# Altium schematic symbol library Real-Time Clocks (RTCs).SchLib: 548 symbols (part 11 of 13)
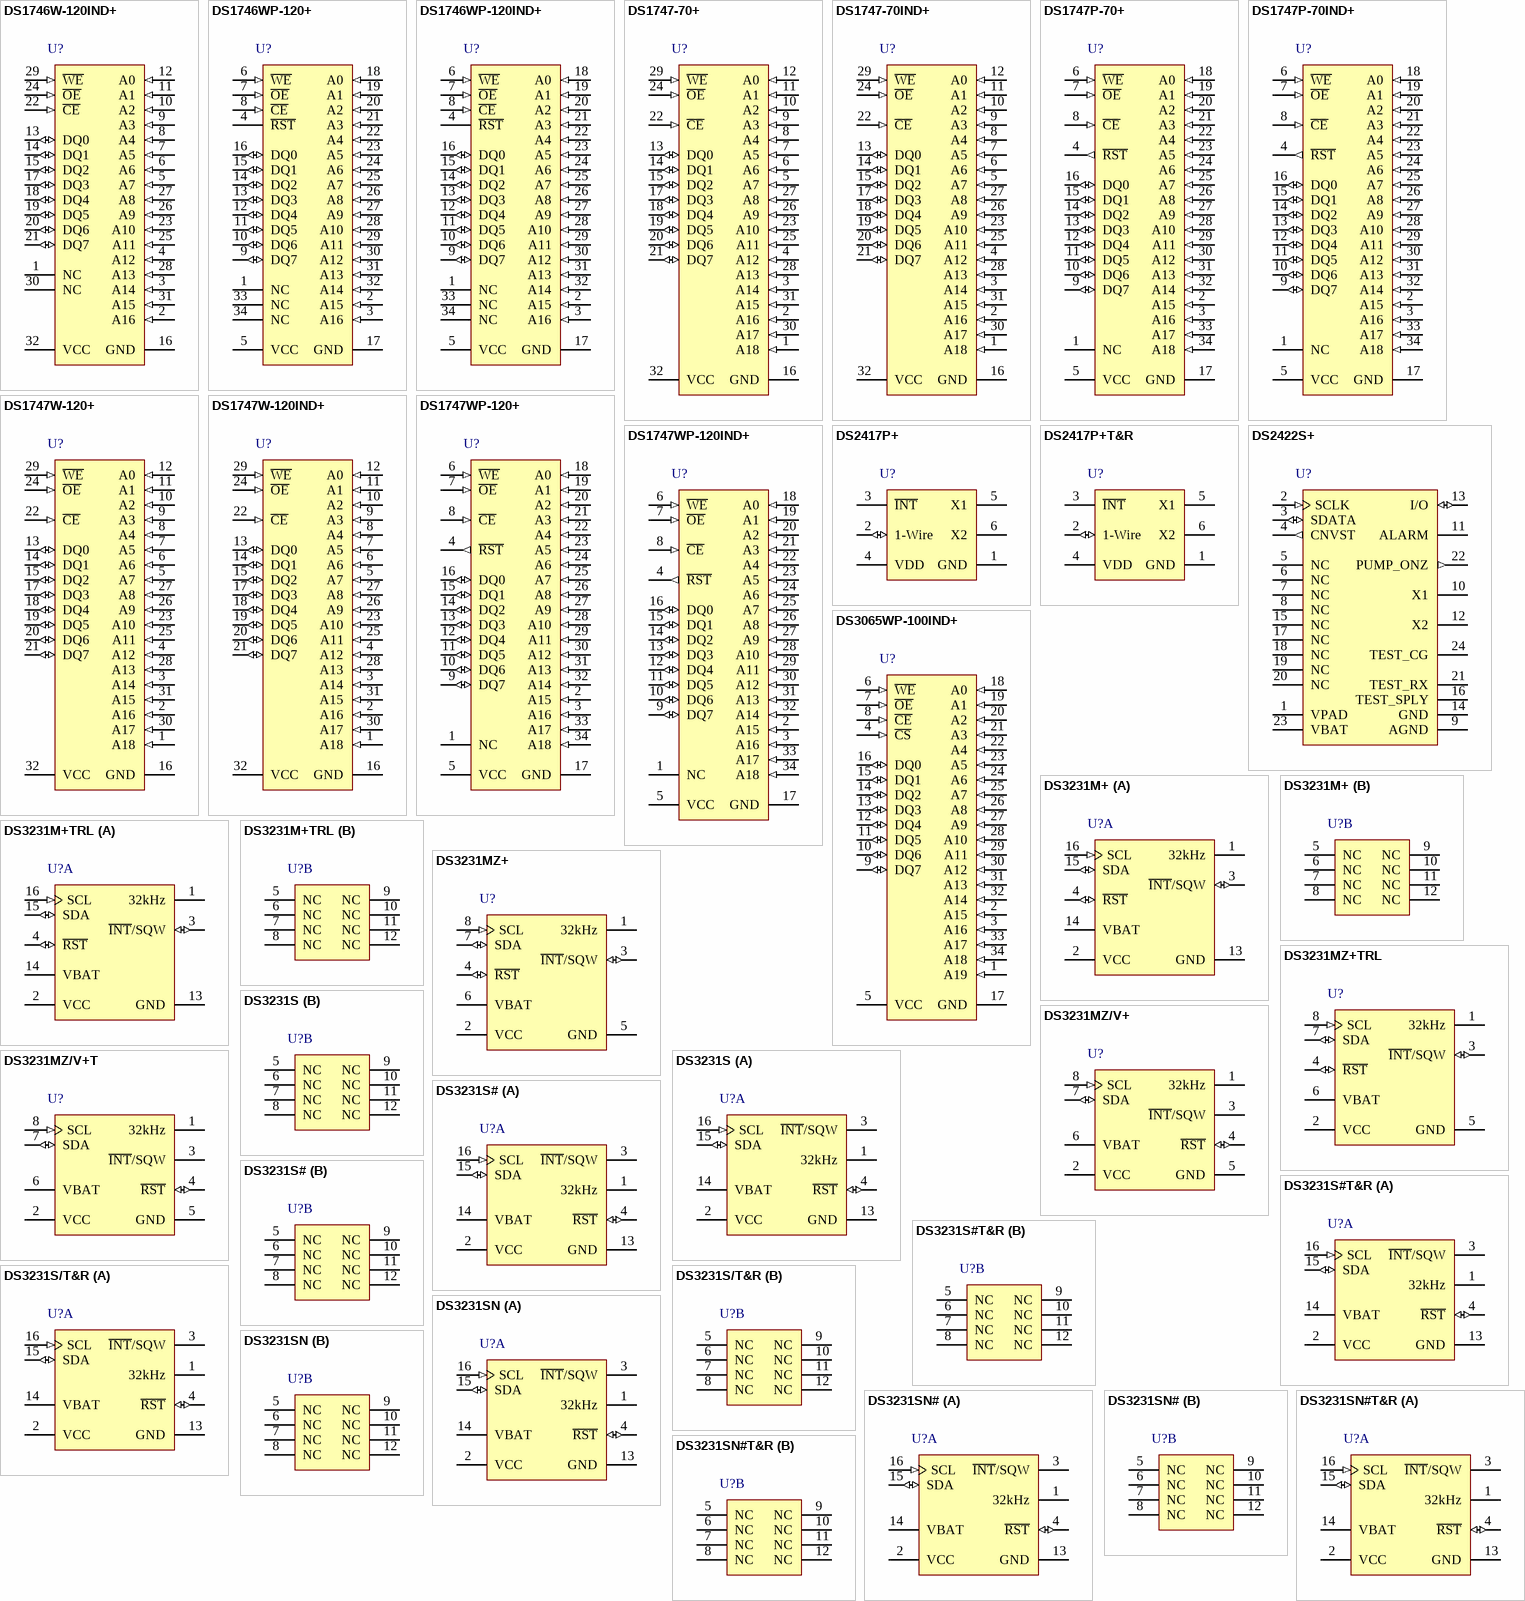
[diagram p31: symbols DS1746W-120IND+ to DS3231SN#T&R]

## DS1747W-120+
designator U?
Y2K-Compliant Nonvolatile Timekeeping RAM, 3.3V, 32-Pin EDIP, 0 to 70 degC, Pb-Free; DatasheetVersion: Mar-2012; PackageVersion: revA, Feb-2009; PackageReference: MDT32+4; PackageDescription: 32-Pin Encapsulated Dual-In-Line Module, 2.54 mm Pitch, EDIP, Pb-Free; ComponentLink1Description: Manufacturer URL; ComponentLink1URL: http://www.maxim-ic.com; ComponentLink2Description: Datasheet; ComponentLink2URL: http://datasheets.maxim-ic.com/en/ds/DS1747-DS1747P.pdf; ComponentLink3Description: Package Specification; ComponentLink3URL: http://pdfserv.maxim-ic.com/package_dwgs/21-0245.PDF
footprint MDT32+4 (DIP, 32 Rectangular Pins, Body 43.1x18.5mm, Row Space 15.24mm, Pitch 2.54mm)
pins: 1 A18 (in), 2 A16 (in), 3 A14 (in), 4 A12 (in), 5 A7 (in), 6 A6 (in), 7 A5 (in), 8 A4 (in), 9 A3 (in), 10 A2 (in), 11 A1 (in), 12 A0 (in), 13 DQ0 (io), 14 DQ1 (io), 15 DQ2 (io), 16 GND (power), 17 DQ3 (io), 18 DQ4 (io), 19 DQ5 (io), 20 DQ6 (io), 21 DQ7 (io), 22 ~{CE} (in), 23 A10 (in), 24 ~{OE} (in), 25 A11 (in), 26 A9 (in), 27 A8 (in), 28 A13 (in), 29 ~{WE} (in), 30 A17 (in), 31 A15 (in), 32 VCC (power)

## DS1747W-120IND+
designator U?
Y2K-Compliant Nonvolatile Timekeeping RAM, 3.3V, 32-Pin EDIP, -40 to 85 degC, Pb-Free; DatasheetVersion: Mar-2012; PackageVersion: revA, Feb-2009; PackageReference: MDT32+4; PackageDescription: 32-Pin Encapsulated Dual-In-Line Module, 2.54 mm Pitch, EDIP, Pb-Free; ComponentLink1Description: Manufacturer URL; ComponentLink1URL: http://www.maxim-ic.com; ComponentLink2Description: Datasheet; ComponentLink2URL: http://datasheets.maxim-ic.com/en/ds/DS1747-DS1747P.pdf; ComponentLink3Description: Package Specification; ComponentLink3URL: http://pdfserv.maxim-ic.com/package_dwgs/21-0245.PDF
footprint MDT32+4 (DIP, 32 Rectangular Pins, Body 43.1x18.5mm, Row Space 15.24mm, Pitch 2.54mm)
pins: 1 A18 (in), 2 A16 (in), 3 A14 (in), 4 A12 (in), 5 A7 (in), 6 A6 (in), 7 A5 (in), 8 A4 (in), 9 A3 (in), 10 A2 (in), 11 A1 (in), 12 A0 (in), 13 DQ0 (io), 14 DQ1 (io), 15 DQ2 (io), 16 GND (power), 17 DQ3 (io), 18 DQ4 (io), 19 DQ5 (io), 20 DQ6 (io), 21 DQ7 (io), 22 ~{CE} (in), 23 A10 (in), 24 ~{OE} (in), 25 A11 (in), 26 A9 (in), 27 A8 (in), 28 A13 (in), 29 ~{WE} (in), 30 A17 (in), 31 A15 (in), 32 VCC (power)

## DS1747WP-120+
designator U?
Y2K-Compliant Nonvolatile Timekeeping RAM, 3.3V, 34-Pin PowerCap, 0 to 70 degC, Pb-Free; DatasheetVersion: Mar-2012; PackageVersion: revA, 2004; PackageReference: PC2+1; PackageDescription: 34-Pin PowerCap 0.990 Module with Cap, PCAP, Pb-Free; ComponentLink1Description: Manufacturer URL; ComponentLink1URL: http://www.maxim-ic.com; ComponentLink2Description: Datasheet; ComponentLink2URL: http://datasheets.maxim-ic.com/en/ds/DS1747-DS1747P.pdf; ComponentLink3Description: Package Specification; ComponentLink3URL: http://pdfserv.maxim-ic.com/package_dwgs/21-0246.PDF
footprint PC2+1 (PowerCap Module with Cap, 34-Leads, Body 24.7 x.25.3mm, Pitch 1.27mm)
pins: 1 NC, 2 A15 (in), 3 A16 (in), 4 ~{RST} (out), 5 VCC (power), 6 ~{WE} (in), 7 ~{OE} (in), 8 ~{CE} (in), 9 DQ7 (io), 10 DQ6 (io), 11 DQ5 (io), 12 DQ4 (io), 13 DQ3 (io), 14 DQ2 (io), 15 DQ1 (io), 16 DQ0 (io), 17 GND (power), 18 A0 (in), 19 A1 (in), 20 A2 (in), 21 A3 (in), 22 A4 (in), 23 A5 (in), 24 A6 (in), 25 A7 (in), 26 A8 (in), 27 A9 (in), 28 A10 (in), 29 A11 (in), 30 A12 (in), 31 A13 (in), 32 A14 (in), 33 A17 (in), 34 A18 (in)

## DS1747WP-120IND+
designator U?
Y2K-Compliant Nonvolatile Timekeeping RAM, 3.3V, 34-Pin PowerCap, -40 to 85 degC, Pb-Free; DatasheetVersion: Mar-2012; PackageVersion: revA, 2004; PackageReference: PC2+1; PackageDescription: 34-Pin PowerCap 0.990 Module with Cap, PCAP, Pb-Free; ComponentLink1Description: Manufacturer URL; ComponentLink1URL: http://www.maxim-ic.com; ComponentLink2Description: Datasheet; ComponentLink2URL: http://datasheets.maxim-ic.com/en/ds/DS1747-DS1747P.pdf; ComponentLink3Description: Package Specification; ComponentLink3URL: http://pdfserv.maxim-ic.com/package_dwgs/21-0246.PDF
footprint PC2+1 (PowerCap Module with Cap, 34-Leads, Body 24.7 x.25.3mm, Pitch 1.27mm)
pins: 1 NC, 2 A15 (in), 3 A16 (in), 4 ~{RST} (out), 5 VCC (power), 6 ~{WE} (in), 7 ~{OE} (in), 8 ~{CE} (in), 9 DQ7 (io), 10 DQ6 (io), 11 DQ5 (io), 12 DQ4 (io), 13 DQ3 (io), 14 DQ2 (io), 15 DQ1 (io), 16 DQ0 (io), 17 GND (power), 18 A0 (in), 19 A1 (in), 20 A2 (in), 21 A3 (in), 22 A4 (in), 23 A5 (in), 24 A6 (in), 25 A7 (in), 26 A8 (in), 27 A9 (in), 28 A10 (in), 29 A11 (in), 30 A12 (in), 31 A13 (in), 32 A14 (in), 33 A17 (in), 34 A18 (in)

## DS2417P+
designator U?
1-Wire Time Chip with Interrupt, 6-Pin TSOC, -40 to 85 degC, Pb-Free; DatasheetVersion: Jul-2007; PackageVersion: revE, 2011; PackageReference: D6+1; PackageDescription: Thin Small-Outline, 6 C-Leads, 3.9 x 3.8 mm Body, 1.27 mm Pitch, TSOC, Pb-Free; ComponentLink1Description: Manufacturer URL; ComponentLink1URL: http://www.maxim-ic.com; ComponentLink2Description: Datasheet; ComponentLink2URL: http://datasheets.maxim-ic.com/en/ds/DS2417.pdf; ComponentLink3Description: Package Specification; ComponentLink3URL: http://pdfserv.maxim-ic.com/package_dwgs/21-0382.PDF
footprint D6+1 (Small Outline; 6 C-Bend Leads; Body Width 3.8 mm; Pitch 1.27 mm, Maxim Recommended)
pins: 1 GND (power), 2 1-Wire (io), 3 ~{INT} (oc), 4 VDD (power), 5 X1, 6 X2

## DS2417P+T&R
designator U?
1-Wire Time Chip with Interrupt, 6-Pin TSOC, -40 to 85 degC, Pb-Free, Reel; DatasheetVersion: Jul-2007; PackageVersion: revE, 2011; PackageReference: D6+1; PackageDescription: Thin Small-Outline, 6 C-Leads, 3.9 x 3.8 mm Body, 1.27 mm Pitch, TSOC, Pb-Free; ComponentLink1Description: Manufacturer URL; ComponentLink1URL: http://www.maxim-ic.com; ComponentLink2Description: Datasheet; ComponentLink2URL: http://datasheets.maxim-ic.com/en/ds/DS2417.pdf; ComponentLink3Description: Package Specification; ComponentLink3URL: http://pdfserv.maxim-ic.com/package_dwgs/21-0382.PDF
footprint D6+1 (Small Outline; 6 C-Bend Leads; Body Width 3.8 mm; Pitch 1.27 mm, Maxim Recommended)
pins: 1 GND (power), 2 1-Wire (io), 3 ~{INT} (oc), 4 VDD (power), 5 X1, 6 X2

## DS2422S+
designator U?
1-Wire Temperature/ Datalogger with 8KB Datalog Memory, 24-Pin SO, -40 to 85 degC, Pb-Free; DatasheetVersion: May-2010; PackageVersion: revD, 2010; PackageReference: W24+4; PackageDescription: 24-Pin Small-Outline IC, Wide (0.3in), 1.27 mm Pitch, SOIC (W), Pb-Free; Code_JEDEC: MS-013-AD; ComponentLink1Description: Manufacturer URL; ComponentLink1URL: http://www.maxim-ic.com; ComponentLink2Description: Datasheet; ComponentLink2URL: http://datasheets.maxim-ic.com/en/ds/DS2422.pdf; ComponentLink3Description: Package Specification; ComponentLink3URL: http://pdfserv.maxim-ic.com/package_dwgs/21-0042.PDF
footprint W24+4_N (SOIC, 24-Leads, Body 15.4x7.5mm, Pitch 1.27mm, IPC Medium Density)
footprint W24+4_L (SOIC, 24-Leads, Body 15.4x7.5mm, Pitch 1.27mm, IPC High Density)
footprint W24+4_M (SOIC, 24-Leads, Body 15.4x7.5mm, Pitch 1.27mm, IPC Low Density)
pins: 1 VPAD (power), 2 SCLK (in), 3 SDATA (io), 4 CNVST (out), 5 NC, 6 NC, 7 NC, 8 NC, 9 AGND (power), 10 X1, 11 ALARM (oc), 12 X2, 13 I/O (io), 14 GND (power), 15 NC, 16 TEST_SPLY (power), 17 NC, 18 NC, 19 NC, 20 NC, 21 TEST_RX (power), 22 PUMP_ONZ (out), 23 VBAT (power), 24 TEST_CG

## DS3065WP-100IND+
designator U?
8Mb Nonvolatile SRAM with Real-Time Clock, 100ns, 3.3V, 34-Pin PowerCap, -40 to 85 degC, Pb-Free; DatasheetVersion: Rev 0, Jul-2010; PackageVersion: revA, 2004; PackageReference: PC3+1; PackageDescription: 34-Pin PowerCap 0.990 Module with Cap, PCAP, Pb-Free; ComponentLink1Description: Manufacturer URL; ComponentLink1URL: http://www.maxim-ic.com; ComponentLink2Description: Datasheet; ComponentLink2URL: http://datasheets.maxim-ic.com/en/ds/DS3065WP.pdf; ComponentLink3Description: Package Specification; ComponentLink3URL: http://pdfserv.maxim-ic.com/package_dwgs/21-0246.PDF
footprint PC3+1 (PowerCap Module with Cap, 34-Leads, Body 24.7 x.25.3mm, Pitch 1.27mm)
pins: 1 A19 (in), 2 A15 (in), 3 A16 (in), 4 ~{CS} (in), 5 VCC (power), 6 ~{WE} (in), 7 ~{OE} (in), 8 ~{CE} (in), 9 DQ7 (io), 10 DQ6 (io), 11 DQ5 (io), 12 DQ4 (io), 13 DQ3 (io), 14 DQ2 (io), 15 DQ1 (io), 16 DQ0 (io), 17 GND (power), 18 A0 (in), 19 A1 (in), 20 A2 (in), 21 A3 (in), 22 A4 (in), 23 A5 (in), 24 A6 (in), 25 A7 (in), 26 A8 (in), 27 A9 (in), 28 A10 (in), 29 A11 (in), 30 A12 (in), 31 A13 (in), 32 A14 (in), 33 A17 (in), 34 A18 (in)

## DS3231M+
designator U?
+/-5ppm, MEMS based Real-Time Clock, I2C Interface, 16-Pin SO, -40 to 85 degC, Pb-Free; DatasheetVersion: Rev 3, Dec-2011; PackageVersion: revD, 2010; PackageReference: W16MK+1; PackageDescription: 16-Pin Small-Outline IC, Wide (0.3in), 1.27 mm Pitch, SOIC (W), Pb-Free; Code_JEDEC: MS-013-AA; Code_IPC: SOIC127P1030-16; ComponentLink1Description: Manufacturer URL; ComponentLink1URL: http://www.maxim-ic.com; ComponentLink2Description: Datasheet; ComponentLink2URL: http://datasheets.maxim-ic.com/en/ds/DS3231M.pdf; ComponentLink3Description: Package Specification; ComponentLink3URL: http://pdfserv.maxim-ic.com/package_dwgs/21-0042.PDF
footprint W16MK+1_N (SOIC, 16-Leads, Body 10.3x7.5mm, Pitch 1.27mm, IPC Medium Density)
footprint W16MK+1_L (SOIC, 16-Leads, Body 10.3x7.5mm, Pitch 1.27mm, IPC High Density)
footprint W16MK+1_M (SOIC, 16-Leads, Body 10.3x7.5mm, Pitch 1.27mm, IPC Low Density)
part A pins: 1 32kHz (oc), 2 VCC (power), 3 ~{INT}/SQW (io), 4 ~{RST} (io), 13 GND (power), 14 VBAT (power), 15 SDA (io), 16 SCL (in)
part B pins: 5 NC, 6 NC, 7 NC, 8 NC, 9 NC, 10 NC, 11 NC, 12 NC

## DS3231M+TRL
designator U?
+/-5ppm, MEMS based Real-Time Clock, I2C Interface, 16-Pin SO, -40 to 85 degC, Pb-Free, Reel; DatasheetVersion: Rev 3, Dec-2011; PackageVersion: revD, 2010; PackageReference: W16MK+1; PackageDescription: 16-Pin Small-Outline IC, Wide (0.3in), 1.27 mm Pitch, SOIC (W), Pb-Free; Code_JEDEC: MS-013-AA; Code_IPC: SOIC127P1030-16; ComponentLink1Description: Manufacturer URL; ComponentLink1URL: http://www.maxim-ic.com; ComponentLink2Description: Datasheet; ComponentLink2URL: http://datasheets.maxim-ic.com/en/ds/DS3231M.pdf; ComponentLink3Description: Package Specification; ComponentLink3URL: http://pdfserv.maxim-ic.com/package_dwgs/21-0042.PDF
footprint W16MK+1_N (SOIC, 16-Leads, Body 10.3x7.5mm, Pitch 1.27mm, IPC Medium Density)
footprint W16MK+1_L (SOIC, 16-Leads, Body 10.3x7.5mm, Pitch 1.27mm, IPC High Density)
footprint W16MK+1_M (SOIC, 16-Leads, Body 10.3x7.5mm, Pitch 1.27mm, IPC Low Density)
part A pins: 1 32kHz (oc), 2 VCC (power), 3 ~{INT}/SQW (io), 4 ~{RST} (io), 13 GND (power), 14 VBAT (power), 15 SDA (io), 16 SCL (in)
part B pins: 5 NC, 6 NC, 7 NC, 8 NC, 9 NC, 10 NC, 11 NC, 12 NC

## DS3231MZ+
designator U?
+/-5ppm, MEMS based Real-Time Clock, I2C Interface, 8-Pin SO, -40 to 85 degC, Pb-Free; DatasheetVersion: Rev 3, Dec-2011; PackageVersion: revC, 2010; PackageReference: S8MK+1; PackageDescription: 8-Pin Small-Outline IC, Narrow (0.15in), 1.27 mm Pitch, SOIC (N), Pb-Free; Code_JEDEC: MS-012-AA; Code_IPC: SOIC127P600-8; ComponentLink1Description: Manufacturer URL; ComponentLink1URL: http://www.maxim-ic.com; ComponentLink2Description: Datasheet; ComponentLink2URL: http://datasheets.maxim-ic.com/en/ds/DS3231M.pdf; ComponentLink3Description: Package Specification; ComponentLink3URL: http://pdfserv.maxim-ic.com/package_dwgs/21-0041.PDF
footprint S8MK+1_N (SOIC, 8-Leads, Body 4.9x3.9mm, Pitch 1.27mm, IPC Medium Density)
footprint S8MK+1_L (SOIC, 8-Leads, Body 4.9x3.9mm, Pitch 1.27mm, IPC High Density)
footprint S8MK+1_M (SOIC, 8-Leads, Body 4.9x3.9mm, Pitch 1.27mm, IPC Low Density)
pins: 1 32kHz (oc), 2 VCC (power), 3 ~{INT}/SQW (io), 4 ~{RST} (io), 5 GND (power), 6 VBAT (power), 7 SDA (io), 8 SCL (in)

## DS3231MZ+TRL
designator U?
+/-5ppm, MEMS based Real-Time Clock, I2C Interface, 8-Pin SO, -40 to 85 degC, Pb-Free, Reel; DatasheetVersion: Rev 3, Dec-2011; PackageVersion: revC, 2010; PackageReference: S8MK+1; PackageDescription: 8-Pin Small-Outline IC, Narrow (0.15in), 1.27 mm Pitch, SOIC (N), Pb-Free; Code_JEDEC: MS-012-AA; Code_IPC: SOIC127P600-8; ComponentLink1Description: Manufacturer URL; ComponentLink1URL: http://www.maxim-ic.com; ComponentLink2Description: Datasheet; ComponentLink2URL: http://datasheets.maxim-ic.com/en/ds/DS3231M.pdf; ComponentLink3Description: Package Specification; ComponentLink3URL: http://pdfserv.maxim-ic.com/package_dwgs/21-0041.PDF
footprint S8MK+1_N (SOIC, 8-Leads, Body 4.9x3.9mm, Pitch 1.27mm, IPC Medium Density)
footprint S8MK+1_L (SOIC, 8-Leads, Body 4.9x3.9mm, Pitch 1.27mm, IPC High Density)
footprint S8MK+1_M (SOIC, 8-Leads, Body 4.9x3.9mm, Pitch 1.27mm, IPC Low Density)
pins: 1 32kHz (oc), 2 VCC (power), 3 ~{INT}/SQW (io), 4 ~{RST} (io), 5 GND (power), 6 VBAT (power), 7 SDA (io), 8 SCL (in)

## DS3231MZ/V+
designator U?
+/-5ppm, I2C Real-Time Clock with Internal MEMs Resonator, 8-Pin SO, -40 to 85 degC, Automotive Qualified, Pb-Free; DatasheetVersion: Rev 3, Dec-2011; PackageVersion: revC, 2010; PackageReference: S8MK+1; PackageDescription: 8-Pin Small-Outline IC, Narrow (0.15in), 1.27 mm Pitch, SOIC (N), Pb-Free; Code_JEDEC: MS-012-AA; Code_IPC: SOIC127P600-8; ComponentLink1Description: Manufacturer URL; ComponentLink1URL: http://www.maxim-ic.com; ComponentLink2Description: Datasheet; ComponentLink2URL: http://datasheets.maxim-ic.com/en/ds/DS3231M.pdf; ComponentLink3Description: Package Specification; ComponentLink3URL: http://pdfserv.maxim-ic.com/package_dwgs/21-0041.PDF
footprint S8MK+1_N (SOIC, 8-Leads, Body 4.9x3.9mm, Pitch 1.27mm, IPC Medium Density)
footprint S8MK+1_L (SOIC, 8-Leads, Body 4.9x3.9mm, Pitch 1.27mm, IPC High Density)
footprint S8MK+1_M (SOIC, 8-Leads, Body 4.9x3.9mm, Pitch 1.27mm, IPC Low Density)
pins: 1 32kHz (oc), 2 VCC (power), 3 ~{INT}/SQW (oc), 4 ~{RST} (io), 5 GND (power), 6 VBAT (power), 7 SDA (io), 8 SCL (in)

## DS3231MZ/V+T
designator U?
+/-5ppm, I2C Real-Time Clock with Internal MEMs Resonator, 8-Pin SO, -40 to 85 degC, Automotive Qualified, Pb-Free, Reel; DatasheetVersion: Rev 3, Dec-2011; PackageVersion: revC, 2010; PackageReference: S8MK+1; PackageDescription: 8-Pin Small-Outline IC, Narrow (0.15in), 1.27 mm Pitch, SOIC (N), Pb-Free; Code_JEDEC: MS-012-AA; Code_IPC: SOIC127P600-8; ComponentLink1Description: Manufacturer URL; ComponentLink1URL: http://www.maxim-ic.com; ComponentLink2Description: Datasheet; ComponentLink2URL: http://datasheets.maxim-ic.com/en/ds/DS3231M.pdf; ComponentLink3Description: Package Specification; ComponentLink3URL: http://pdfserv.maxim-ic.com/package_dwgs/21-0041.PDF
footprint S8MK+1_N (SOIC, 8-Leads, Body 4.9x3.9mm, Pitch 1.27mm, IPC Medium Density)
footprint S8MK+1_L (SOIC, 8-Leads, Body 4.9x3.9mm, Pitch 1.27mm, IPC High Density)
footprint S8MK+1_M (SOIC, 8-Leads, Body 4.9x3.9mm, Pitch 1.27mm, IPC Low Density)
pins: 1 32kHz (oc), 2 VCC (power), 3 ~{INT}/SQW (oc), 4 ~{RST} (io), 5 GND (power), 6 VBAT (power), 7 SDA (io), 8 SCL (in)

## DS3231S
designator U?
Extremely Accurate I2C-Integrated Real-Time Clock/TCXO/Crystal, 16-Pin SO, 0 to 70 degC; DatasheetVersion: Rev 8, Jul-2010; PackageVersion: revD, 2010; PackageReference: W16-H2; PackageDescription: 16-Pin Small-Outline IC, Wide (0.3in), 1.27 mm Pitch, SOIC (W); Code_JEDEC: MS-013-AA; Code_IPC: SOIC127P1030-16; ComponentLink1Description: Manufacturer URL; ComponentLink1URL: http://www.maxim-ic.com; ComponentLink2Description: Datasheet; ComponentLink2URL: http://datasheets.maxim-ic.com/en/ds/DS3231.pdf; ComponentLink3Description: Package Specification; ComponentLink3URL: http://pdfserv.maxim-ic.com/package_dwgs/21-0042.PDF
footprint W16-H2_N (SOIC, 16-Leads, Body 10.3x7.5mm, Pitch 1.27mm, IPC Medium Density)
footprint W16-H2_L (SOIC, 16-Leads, Body 10.3x7.5mm, Pitch 1.27mm, IPC High Density)
footprint W16-H2_M (SOIC, 16-Leads, Body 10.3x7.5mm, Pitch 1.27mm, IPC Low Density)
part A pins: 1 32kHz (oc), 2 VCC (power), 3 ~{INT}/SQW (oc), 4 ~{RST} (io), 13 GND (power), 14 VBAT (power), 15 SDA (io), 16 SCL (in)
part B pins: 5 NC, 6 NC, 7 NC, 8 NC, 9 NC, 10 NC, 11 NC, 12 NC

## DS3231S#
designator U?
Extremely Accurate I2C-Integrated Real-Time Clock/TCXO/Crystal, 16-Pin SO, 0 to 70 degC, RoHS Qualified; DatasheetVersion: Rev 8, Jul-2010; PackageVersion: revD, 2010; PackageReference: W16#H2; PackageDescription: 16-Pin Small-Outline IC, Wide (0.3in), 1.27 mm Pitch, SOIC (W), RoHS Qualified; Code_JEDEC: MS-013-AA; Code_IPC: SOIC127P1030-16; ComponentLink1Description: Manufacturer URL; ComponentLink1URL: http://www.maxim-ic.com; ComponentLink2Description: Datasheet; ComponentLink2URL: http://datasheets.maxim-ic.com/en/ds/DS3231.pdf; ComponentLink3Description: Package Specification; ComponentLink3URL: http://pdfserv.maxim-ic.com/package_dwgs/21-0042.PDF
footprint W16#H2_N (SOIC, 16-Leads, Body 10.3x7.5mm, Pitch 1.27mm, IPC Medium Density)
footprint W16#H2_L (SOIC, 16-Leads, Body 10.3x7.5mm, Pitch 1.27mm, IPC High Density)
footprint W16#H2_M (SOIC, 16-Leads, Body 10.3x7.5mm, Pitch 1.27mm, IPC Low Density)
part A pins: 1 32kHz (oc), 2 VCC (power), 3 ~{INT}/SQW (oc), 4 ~{RST} (io), 13 GND (power), 14 VBAT (power), 15 SDA (io), 16 SCL (in)
part B pins: 5 NC, 6 NC, 7 NC, 8 NC, 9 NC, 10 NC, 11 NC, 12 NC

## DS3231S#T&R
designator U?
Extremely Accurate I2C-Integrated Real-Time Clock/TCXO/Crystal, 16-Pin SO, 0 to 70 degC, RoHS Qualified, Reel; DatasheetVersion: Rev 8, Jul-2010; PackageVersion: revD, 2010; PackageReference: W16#H2; PackageDescription: 16-Pin Small-Outline IC, Wide (0.3in), 1.27 mm Pitch, SOIC (W), RoHS Qualified; Code_JEDEC: MS-013-AA; Code_IPC: SOIC127P1030-16; ComponentLink1Description: Manufacturer URL; ComponentLink1URL: http://www.maxim-ic.com; ComponentLink2Description: Datasheet; ComponentLink2URL: http://datasheets.maxim-ic.com/en/ds/DS3231.pdf; ComponentLink3Description: Package Specification; ComponentLink3URL: http://pdfserv.maxim-ic.com/package_dwgs/21-0042.PDF
footprint W16#H2_N (SOIC, 16-Leads, Body 10.3x7.5mm, Pitch 1.27mm, IPC Medium Density)
footprint W16#H2_L (SOIC, 16-Leads, Body 10.3x7.5mm, Pitch 1.27mm, IPC High Density)
footprint W16#H2_M (SOIC, 16-Leads, Body 10.3x7.5mm, Pitch 1.27mm, IPC Low Density)
part A pins: 1 32kHz (oc), 2 VCC (power), 3 ~{INT}/SQW (oc), 4 ~{RST} (io), 13 GND (power), 14 VBAT (power), 15 SDA (io), 16 SCL (in)
part B pins: 5 NC, 6 NC, 7 NC, 8 NC, 9 NC, 10 NC, 11 NC, 12 NC

## DS3231S/T&R
designator U?
Extremely Accurate I2C-Integrated Real-Time Clock/TCXO/Crystal, 16-Pin SO, 0 to 70 degC, Reel; DatasheetVersion: Rev 8, Jul-2010; PackageVersion: revD, 2010; PackageReference: W16-H2; PackageDescription: 16-Pin Small-Outline IC, Wide (0.3in), 1.27 mm Pitch, SOIC (W); Code_JEDEC: MS-013-AA; Code_IPC: SOIC127P1030-16; ComponentLink1Description: Manufacturer URL; ComponentLink1URL: http://www.maxim-ic.com; ComponentLink2Description: Datasheet; ComponentLink2URL: http://datasheets.maxim-ic.com/en/ds/DS3231.pdf; ComponentLink3Description: Package Specification; ComponentLink3URL: http://pdfserv.maxim-ic.com/package_dwgs/21-0042.PDF
footprint W16-H2_N (SOIC, 16-Leads, Body 10.3x7.5mm, Pitch 1.27mm, IPC Medium Density)
footprint W16-H2_L (SOIC, 16-Leads, Body 10.3x7.5mm, Pitch 1.27mm, IPC High Density)
footprint W16-H2_M (SOIC, 16-Leads, Body 10.3x7.5mm, Pitch 1.27mm, IPC Low Density)
part A pins: 1 32kHz (oc), 2 VCC (power), 3 ~{INT}/SQW (oc), 4 ~{RST} (io), 13 GND (power), 14 VBAT (power), 15 SDA (io), 16 SCL (in)
part B pins: 5 NC, 6 NC, 7 NC, 8 NC, 9 NC, 10 NC, 11 NC, 12 NC

## DS3231SN
designator U?
Extremely Accurate I2C-Integrated Real-Time Clock/TCXO/Crystal, 16-Pin SO, -40 to 85 degC; DatasheetVersion: Rev 8, Jul-2010; PackageVersion: revD, 2010; PackageReference: W16-H2; PackageDescription: 16-Pin Small-Outline IC, Wide (0.3in), 1.27 mm Pitch, SOIC (W); Code_JEDEC: MS-013-AA; Code_IPC: SOIC127P1030-16; ComponentLink1Description: Manufacturer URL; ComponentLink1URL: http://www.maxim-ic.com; ComponentLink2Description: Datasheet; ComponentLink2URL: http://datasheets.maxim-ic.com/en/ds/DS3231.pdf; ComponentLink3Description: Package Specification; ComponentLink3URL: http://pdfserv.maxim-ic.com/package_dwgs/21-0042.PDF
footprint W16-H2_N (SOIC, 16-Leads, Body 10.3x7.5mm, Pitch 1.27mm, IPC Medium Density)
footprint W16-H2_L (SOIC, 16-Leads, Body 10.3x7.5mm, Pitch 1.27mm, IPC High Density)
footprint W16-H2_M (SOIC, 16-Leads, Body 10.3x7.5mm, Pitch 1.27mm, IPC Low Density)
part A pins: 1 32kHz (oc), 2 VCC (power), 3 ~{INT}/SQW (oc), 4 ~{RST} (io), 13 GND (power), 14 VBAT (power), 15 SDA (io), 16 SCL (in)
part B pins: 5 NC, 6 NC, 7 NC, 8 NC, 9 NC, 10 NC, 11 NC, 12 NC

## DS3231SN#
designator U?
Extremely Accurate I2C-Integrated Real-Time Clock/TCXO/Crystal, 16-Pin SO, -40 to 85 degC, RoHS Qualified; DatasheetVersion: Rev 8, Jul-2010; PackageVersion: revD, 2010; PackageReference: W16#H2; PackageDescription: 16-Pin Small-Outline IC, Wide (0.3in), 1.27 mm Pitch, SOIC (W), RoHS Qualified; Code_JEDEC: MS-013-AA; Code_IPC: SOIC127P1030-16; ComponentLink1Description: Manufacturer URL; ComponentLink1URL: http://www.maxim-ic.com; ComponentLink2Description: Datasheet; ComponentLink2URL: http://datasheets.maxim-ic.com/en/ds/DS3231.pdf; ComponentLink3Description: Package Specification; ComponentLink3URL: http://pdfserv.maxim-ic.com/package_dwgs/21-0042.PDF
footprint W16#H2_N (SOIC, 16-Leads, Body 10.3x7.5mm, Pitch 1.27mm, IPC Medium Density)
footprint W16#H2_L (SOIC, 16-Leads, Body 10.3x7.5mm, Pitch 1.27mm, IPC High Density)
footprint W16#H2_M (SOIC, 16-Leads, Body 10.3x7.5mm, Pitch 1.27mm, IPC Low Density)
part A pins: 1 32kHz (oc), 2 VCC (power), 3 ~{INT}/SQW (oc), 4 ~{RST} (io), 13 GND (power), 14 VBAT (power), 15 SDA (io), 16 SCL (in)
part B pins: 5 NC, 6 NC, 7 NC, 8 NC, 9 NC, 10 NC, 11 NC, 12 NC

## DS3231SN#T&R
designator U?
Extremely Accurate I2C-Integrated Real-Time Clock/TCXO/Crystal, 16-Pin SO, -40 to 85 degC, RoHS Qualified, Reel; DatasheetVersion: Rev 8, Jul-2010; PackageVersion: revD, 2010; PackageReference: W16#H2; PackageDescription: 16-Pin Small-Outline IC, Wide (0.3in), 1.27 mm Pitch, SOIC (W), RoHS Qualified; Code_JEDEC: MS-013-AA; Code_IPC: SOIC127P1030-16; ComponentLink1Description: Manufacturer URL; ComponentLink1URL: http://www.maxim-ic.com; ComponentLink2Description: Datasheet; ComponentLink2URL: http://datasheets.maxim-ic.com/en/ds/DS3231.pdf; ComponentLink3Description: Package Specification; ComponentLink3URL: http://pdfserv.maxim-ic.com/package_dwgs/21-0042.PDF
footprint W16#H2_N (SOIC, 16-Leads, Body 10.3x7.5mm, Pitch 1.27mm, IPC Medium Density)
footprint W16#H2_L (SOIC, 16-Leads, Body 10.3x7.5mm, Pitch 1.27mm, IPC High Density)
footprint W16#H2_M (SOIC, 16-Leads, Body 10.3x7.5mm, Pitch 1.27mm, IPC Low Density)
part A pins: 1 32kHz (oc), 2 VCC (power), 3 ~{INT}/SQW (oc), 4 ~{RST} (io), 13 GND (power), 14 VBAT (power), 15 SDA (io), 16 SCL (in)
part B pins: 5 NC, 6 NC, 7 NC, 8 NC, 9 NC, 10 NC, 11 NC, 12 NC

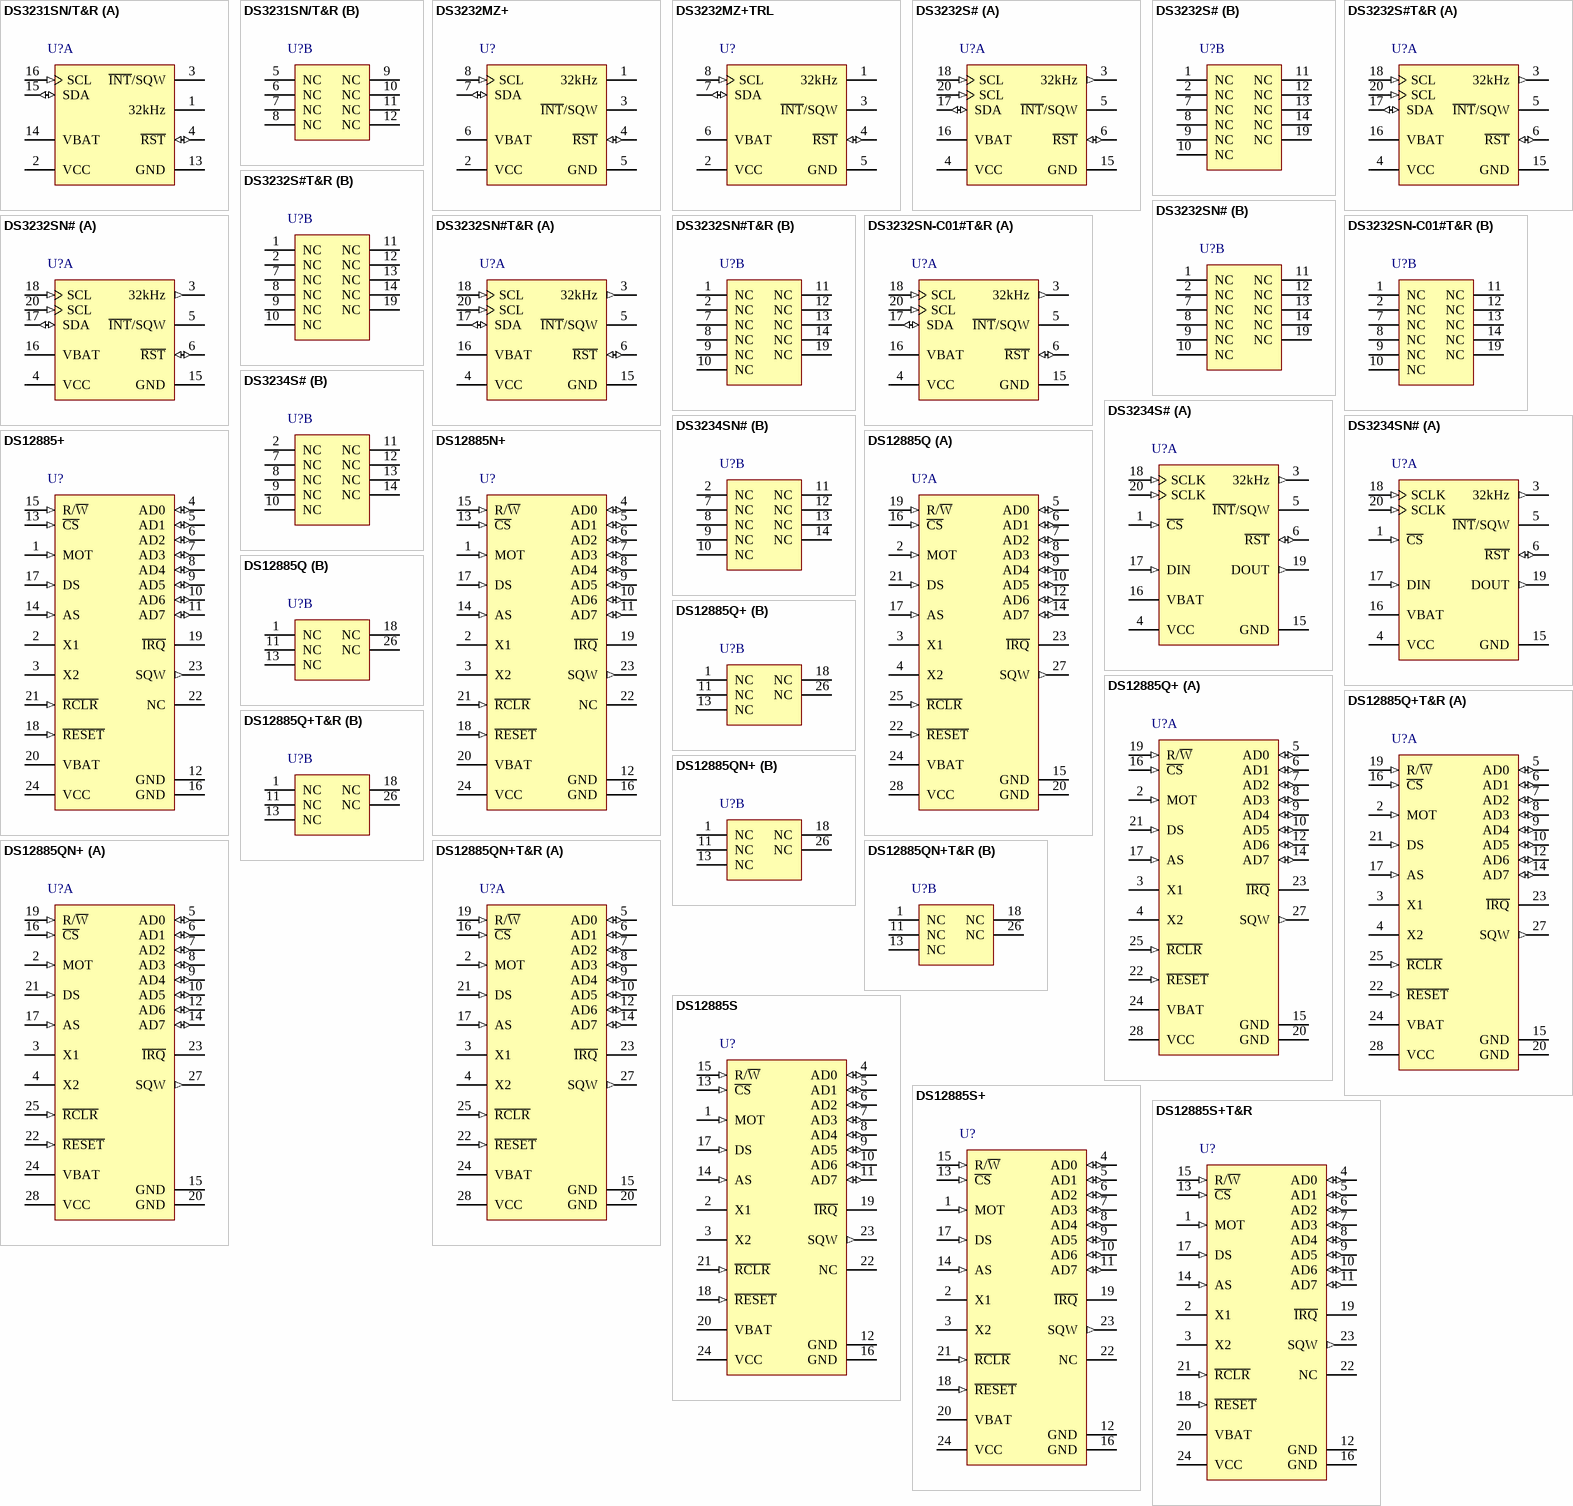
[diagram p18: symbols DS3231SN/T&R to DS12885S+T&R]

## DS3231SN/T&R
designator U?
Extremely Accurate I2C-Integrated Real-Time Clock/TCXO/Crystal, 16-Pin SO, -40 to 85 degC, Reel; DatasheetVersion: Rev 8, Jul-2010; PackageVersion: revD, 2010; PackageReference: W16-H2; PackageDescription: 16-Pin Small-Outline IC, Wide (0.3in), 1.27 mm Pitch, SOIC (W); Code_JEDEC: MS-013-AA; Code_IPC: SOIC127P1030-16; ComponentLink1Description: Manufacturer URL; ComponentLink1URL: http://www.maxim-ic.com; ComponentLink2Description: Datasheet; ComponentLink2URL: http://datasheets.maxim-ic.com/en/ds/DS3231.pdf; ComponentLink3Description: Package Specification; ComponentLink3URL: http://pdfserv.maxim-ic.com/package_dwgs/21-0042.PDF
footprint W16-H2_N (SOIC, 16-Leads, Body 10.3x7.5mm, Pitch 1.27mm, IPC Medium Density)
footprint W16-H2_L (SOIC, 16-Leads, Body 10.3x7.5mm, Pitch 1.27mm, IPC High Density)
footprint W16-H2_M (SOIC, 16-Leads, Body 10.3x7.5mm, Pitch 1.27mm, IPC Low Density)
part A pins: 1 32kHz (oc), 2 VCC (power), 3 ~{INT}/SQW (oc), 4 ~{RST} (io), 13 GND (power), 14 VBAT (power), 15 SDA (io), 16 SCL (in)
part B pins: 5 NC, 6 NC, 7 NC, 8 NC, 9 NC, 10 NC, 11 NC, 12 NC

## DS3232MZ+
designator U?
+/-5ppm, I2C Real-Time Clock with Internal MEMs Resonator and SRAM, 8-Pin SO, -40 to 85 degC, Pb-Free; DatasheetVersion: Rev 0, Mar-2012; PackageVersion: revC, 2010; PackageReference: S8MK+1; PackageDescription: 8-Pin Small-Outline IC, Narrow (0.15in), 1.27 mm Pitch, SOIC (N), Pb-Free; Code_JEDEC: MS-012-AA; Code_IPC: SOIC127P600-8; ComponentLink1Description: Manufacturer URL; ComponentLink1URL: http://www.maxim-ic.com; ComponentLink2Description: Datasheet; ComponentLink2URL: http://datasheets.maxim-ic.com/en/ds/DS3232M.pdf; ComponentLink3Description: Package Specification; ComponentLink3URL: http://pdfserv.maxim-ic.com/package_dwgs/21-0041.PDF
footprint S8MK+1_N (SOIC, 8-Leads, Body 4.9x3.9mm, Pitch 1.27mm, IPC Medium Density)
footprint S8MK+1_L (SOIC, 8-Leads, Body 4.9x3.9mm, Pitch 1.27mm, IPC High Density)
footprint S8MK+1_M (SOIC, 8-Leads, Body 4.9x3.9mm, Pitch 1.27mm, IPC Low Density)
pins: 1 32kHz (oc), 2 VCC (power), 3 ~{INT}/SQW (oc), 4 ~{RST} (io), 5 GND (power), 6 VBAT (power), 7 SDA (io), 8 SCL (in)

## DS3232MZ+TRL
designator U?
+/-5ppm, I2C Real-Time Clock with Internal MEMs Resonator and SRAM, 8-Pin SO, -40 to 85 degC, Pb-Free; DatasheetVersion: Rev 0, Mar-2012; PackageVersion: revC, 2010; PackageReference: S8MK+1; PackageDescription: 8-Pin Small-Outline IC, Narrow (0.15in), 1.27 mm Pitch, SOIC (N), Pb-Free; Code_JEDEC: MS-012-AA; Code_IPC: SOIC127P600-8; ComponentLink1Description: Manufacturer URL; ComponentLink1URL: http://www.maxim-ic.com; ComponentLink2Description: Datasheet; ComponentLink2URL: http://datasheets.maxim-ic.com/en/ds/DS3232M.pdf; ComponentLink3Description: Package Specification; ComponentLink3URL: http://pdfserv.maxim-ic.com/package_dwgs/21-0041.PDF
footprint S8MK+1_N (SOIC, 8-Leads, Body 4.9x3.9mm, Pitch 1.27mm, IPC Medium Density)
footprint S8MK+1_L (SOIC, 8-Leads, Body 4.9x3.9mm, Pitch 1.27mm, IPC High Density)
footprint S8MK+1_M (SOIC, 8-Leads, Body 4.9x3.9mm, Pitch 1.27mm, IPC Low Density)
pins: 1 32kHz (oc), 2 VCC (power), 3 ~{INT}/SQW (oc), 4 ~{RST} (io), 5 GND (power), 6 VBAT (power), 7 SDA (io), 8 SCL (in)

## DS3232S#
designator U?
Extremely Accurate I2C-Integrated Real-Time Clock/TCXO/Crystal and SRAM, 20-Pin SO, 0 to 70 degC, RoHS Qualified; DatasheetVersion: Rev 5, Jul-2010; PackageVersion: revD, 2010; PackageReference: W20#H2; PackageDescription: 20-Pin Small-Outline IC, Wide (0.3in), 1.27 mm Pitch, SOIC (W), RoHS Qualified; Code_JEDEC: MS-013-AC; Code_IPC: SOIC127P1030-20; ComponentLink1Description: Manufacturer URL; ComponentLink1URL: http://www.maxim-ic.com; ComponentLink2Description: Datasheet; ComponentLink2URL: http://datasheets.maxim-ic.com/en/ds/DS3232.pdf; ComponentLink3Description: Package Specification; ComponentLink3URL: http://pdfserv.maxim-ic.com/package_dwgs/21-0042.PDF
footprint W20#H2_N (SOIC, 20-Leads, Body 12.8x7.5mm, Pitch 1.27mm, IPC Medium Density)
footprint W20#H2_L (SOIC, 20-Leads, Body 12.8x7.5mm, Pitch 1.27mm, IPC High Density)
footprint W20#H2_M (SOIC, 20-Leads, Body 12.8x7.5mm, Pitch 1.27mm, IPC Low Density)
part A pins: 3 32kHz (out), 4 VCC (power), 5 ~{INT}/SQW (oc), 6 ~{RST} (io), 15 GND (power), 16 VBAT (power), 17 SDA (io), 18 SCL (in), 20 SCL (in)
part B pins: 1 NC, 2 NC, 7 NC, 8 NC, 9 NC, 10 NC, 11 NC, 12 NC, 13 NC, 14 NC, 19 NC

## DS3232S#T&R
designator U?
Extremely Accurate I2C-Integrated Real-Time Clock/TCXO/Crystal and SRAM, 20-Pin SO, 0 to 70 degC, RoHS Qualified, Reel; DatasheetVersion: Rev 5, Jul-2010; PackageVersion: revD, 2010; PackageReference: W20#H2; PackageDescription: 20-Pin Small-Outline IC, Wide (0.3in), 1.27 mm Pitch, SOIC (W), RoHS Qualified; Code_JEDEC: MS-013-AC; Code_IPC: SOIC127P1030-20; ComponentLink1Description: Manufacturer URL; ComponentLink1URL: http://www.maxim-ic.com; ComponentLink2Description: Datasheet; ComponentLink2URL: http://datasheets.maxim-ic.com/en/ds/DS3232.pdf; ComponentLink3Description: Package Specification; ComponentLink3URL: http://pdfserv.maxim-ic.com/package_dwgs/21-0042.PDF
footprint W20#H2_N (SOIC, 20-Leads, Body 12.8x7.5mm, Pitch 1.27mm, IPC Medium Density)
footprint W20#H2_L (SOIC, 20-Leads, Body 12.8x7.5mm, Pitch 1.27mm, IPC High Density)
footprint W20#H2_M (SOIC, 20-Leads, Body 12.8x7.5mm, Pitch 1.27mm, IPC Low Density)
part A pins: 3 32kHz (out), 4 VCC (power), 5 ~{INT}/SQW (oc), 6 ~{RST} (io), 15 GND (power), 16 VBAT (power), 17 SDA (io), 18 SCL (in), 20 SCL (in)
part B pins: 1 NC, 2 NC, 7 NC, 8 NC, 9 NC, 10 NC, 11 NC, 12 NC, 13 NC, 14 NC, 19 NC

## DS3232SN#
designator U?
Extremely Accurate I2C-Integrated Real-Time Clock/TCXO/Crystal and SRAM, 20-Pin SO, -40 to 85 degC, RoHS Qualified; DatasheetVersion: Rev 5, Jul-2010; PackageVersion: revD, 2010; PackageReference: W20#H2; PackageDescription: 20-Pin Small-Outline IC, Wide (0.3in), 1.27 mm Pitch, SOIC (W), RoHS Qualified; Code_JEDEC: MS-013-AC; Code_IPC: SOIC127P1030-20; ComponentLink1Description: Manufacturer URL; ComponentLink1URL: http://www.maxim-ic.com; ComponentLink2Description: Datasheet; ComponentLink2URL: http://datasheets.maxim-ic.com/en/ds/DS3232.pdf; ComponentLink3Description: Package Specification; ComponentLink3URL: http://pdfserv.maxim-ic.com/package_dwgs/21-0042.PDF
footprint W20#H2_N (SOIC, 20-Leads, Body 12.8x7.5mm, Pitch 1.27mm, IPC Medium Density)
footprint W20#H2_L (SOIC, 20-Leads, Body 12.8x7.5mm, Pitch 1.27mm, IPC High Density)
footprint W20#H2_M (SOIC, 20-Leads, Body 12.8x7.5mm, Pitch 1.27mm, IPC Low Density)
part A pins: 3 32kHz (out), 4 VCC (power), 5 ~{INT}/SQW (oc), 6 ~{RST} (io), 15 GND (power), 16 VBAT (power), 17 SDA (io), 18 SCL (in), 20 SCL (in)
part B pins: 1 NC, 2 NC, 7 NC, 8 NC, 9 NC, 10 NC, 11 NC, 12 NC, 13 NC, 14 NC, 19 NC

## DS3232SN#T&R
designator U?
Extremely Accurate I2C-Integrated Real-Time Clock/TCXO/Crystal and SRAM, 20-Pin SO, -40 to 85 degC, RoHS Qualified, Reel; DatasheetVersion: Rev 5, Jul-2010; PackageVersion: revD, 2010; PackageReference: W20#H2; PackageDescription: 20-Pin Small-Outline IC, Wide (0.3in), 1.27 mm Pitch, SOIC (W), RoHS Qualified; Code_JEDEC: MS-013-AC; Code_IPC: SOIC127P1030-20; ComponentLink1Description: Manufacturer URL; ComponentLink1URL: http://www.maxim-ic.com; ComponentLink2Description: Datasheet; ComponentLink2URL: http://datasheets.maxim-ic.com/en/ds/DS3232.pdf; ComponentLink3Description: Package Specification; ComponentLink3URL: http://pdfserv.maxim-ic.com/package_dwgs/21-0042.PDF
footprint W20#H2_N (SOIC, 20-Leads, Body 12.8x7.5mm, Pitch 1.27mm, IPC Medium Density)
footprint W20#H2_L (SOIC, 20-Leads, Body 12.8x7.5mm, Pitch 1.27mm, IPC High Density)
footprint W20#H2_M (SOIC, 20-Leads, Body 12.8x7.5mm, Pitch 1.27mm, IPC Low Density)
part A pins: 3 32kHz (out), 4 VCC (power), 5 ~{INT}/SQW (oc), 6 ~{RST} (io), 15 GND (power), 16 VBAT (power), 17 SDA (io), 18 SCL (in), 20 SCL (in)
part B pins: 1 NC, 2 NC, 7 NC, 8 NC, 9 NC, 10 NC, 11 NC, 12 NC, 13 NC, 14 NC, 19 NC

## DS3232SN-C01#T&R
designator U?
Extremely Accurate I2C-Integrated Real-Time Clock/TCXO/Crystal and SRAM, 20-Pin SO, -40 to 85 degC, RoHS Qualified, Reel; DatasheetVersion: Rev 5, Jul-2010; PackageVersion: revD, 2010; PackageReference: W20#H2; PackageDescription: 20-Pin Small-Outline IC, Wide (0.3in), 1.27 mm Pitch, SOIC (W), RoHS Qualified; Code_JEDEC: MS-013-AC; Code_IPC: SOIC127P1030-20; ComponentLink1Description: Manufacturer URL; ComponentLink1URL: http://www.maxim-ic.com; ComponentLink2Description: Datasheet; ComponentLink2URL: http://datasheets.maxim-ic.com/en/ds/DS3232.pdf; ComponentLink3Description: Package Specification; ComponentLink3URL: http://pdfserv.maxim-ic.com/package_dwgs/21-0042.PDF
footprint W20#H2_N (SOIC, 20-Leads, Body 12.8x7.5mm, Pitch 1.27mm, IPC Medium Density)
footprint W20#H2_L (SOIC, 20-Leads, Body 12.8x7.5mm, Pitch 1.27mm, IPC High Density)
footprint W20#H2_M (SOIC, 20-Leads, Body 12.8x7.5mm, Pitch 1.27mm, IPC Low Density)
part A pins: 3 32kHz (out), 4 VCC (power), 5 ~{INT}/SQW (oc), 6 ~{RST} (io), 15 GND (power), 16 VBAT (power), 17 SDA (io), 18 SCL (in), 20 SCL (in)
part B pins: 1 NC, 2 NC, 7 NC, 8 NC, 9 NC, 10 NC, 11 NC, 12 NC, 13 NC, 14 NC, 19 NC

## DS3234S#
designator U?
Extremely Accurate SPI Bus Real-Time Clock with Integrated Crystal and SRAM, 20-Pin SO, 0 to 70 degC, RoHS Qualified; DatasheetVersion: Rev 3, Jul-2010; PackageVersion: revD, 2010; PackageReference: W20#H2; PackageDescription: 20-Pin Small-Outline IC, Wide (0.3in), 1.27 mm Pitch, SOIC (W), RoHS Qualified; Code_JEDEC: MS-013-AC; Code_IPC: SOIC127P1030-20; ComponentLink1Description: Manufacturer URL; ComponentLink1URL: http://www.maxim-ic.com; ComponentLink2Description: Datasheet; ComponentLink2URL: http://datasheets.maxim-ic.com/en/ds/DS3234.pdf; ComponentLink3Description: Package Specification; ComponentLink3URL: http://pdfserv.maxim-ic.com/package_dwgs/21-0042.PDF
footprint W20#H2_N (SOIC, 20-Leads, Body 12.8x7.5mm, Pitch 1.27mm, IPC Medium Density)
footprint W20#H2_L (SOIC, 20-Leads, Body 12.8x7.5mm, Pitch 1.27mm, IPC High Density)
footprint W20#H2_M (SOIC, 20-Leads, Body 12.8x7.5mm, Pitch 1.27mm, IPC Low Density)
part A pins: 1 ~{CS} (in), 3 32kHz (out), 4 VCC (power), 5 ~{INT}/SQW (oc), 6 ~{RST} (io), 15 GND (power), 16 VBAT (power), 17 DIN (in), 18 SCLK (in), 19 DOUT (out), 20 SCLK (in)
part B pins: 2 NC, 7 NC, 8 NC, 9 NC, 10 NC, 11 NC, 12 NC, 13 NC, 14 NC

## DS3234SN#
designator U?
Extremely Accurate SPI Bus Real-Time Clock with Integrated Crystal and SRAM, 20-Pin SO, -40 to 85 degC, RoHS Qualified; DatasheetVersion: Rev 3, Jul-2010; PackageVersion: revD, 2010; PackageReference: W20#H2; PackageDescription: 20-Pin Small-Outline IC, Wide (0.3in), 1.27 mm Pitch, SOIC (W), RoHS Qualified; Code_JEDEC: MS-013-AC; Code_IPC: SOIC127P1030-20; ComponentLink1Description: Manufacturer URL; ComponentLink1URL: http://www.maxim-ic.com; ComponentLink2Description: Datasheet; ComponentLink2URL: http://datasheets.maxim-ic.com/en/ds/DS3234.pdf; ComponentLink3Description: Package Specification; ComponentLink3URL: http://pdfserv.maxim-ic.com/package_dwgs/21-0042.PDF
footprint W20#H2_N (SOIC, 20-Leads, Body 12.8x7.5mm, Pitch 1.27mm, IPC Medium Density)
footprint W20#H2_L (SOIC, 20-Leads, Body 12.8x7.5mm, Pitch 1.27mm, IPC High Density)
footprint W20#H2_M (SOIC, 20-Leads, Body 12.8x7.5mm, Pitch 1.27mm, IPC Low Density)
part A pins: 1 ~{CS} (in), 3 32kHz (out), 4 VCC (power), 5 ~{INT}/SQW (oc), 6 ~{RST} (io), 15 GND (power), 16 VBAT (power), 17 DIN (in), 18 SCLK (in), 19 DOUT (out), 20 SCLK (in)
part B pins: 2 NC, 7 NC, 8 NC, 9 NC, 10 NC, 11 NC, 12 NC, 13 NC, 14 NC

## DS12885+
designator U?
Real-Time Clock, 114 Byte Battery-Backed RAM, 24-Pin PDIP, 0 to 70 degC, Pb-Free; DatasheetVersion: rev4, Apr-2010; PackageVersion: revD, 2011; PackageReference: P24+4; PackageDescription: 24-Pin Plastic Dual-In-Line, 0.6in Wide, PDIP(W), Pb-Free; Code_JEDEC: MS-011-AA; ComponentLink1Description: Manufacturer URL; ComponentLink1URL: http://www.maxim-ic.com; ComponentLink2Description: Datasheet; ComponentLink2URL: http://datasheets.maxim-ic.com/en/ds/DS12885-DS12C887A.pdf; ComponentLink3Description: Package Specification; ComponentLink3URL: http://pdfserv.maxim-ic.com/package_dwgs/21-0044.PDF
footprint P24+4 (DIP, 24-Leads, Row Spacing 15.24mm, Pitch 2.54mm, Body 31.8x14mm)
pins: 1 MOT (in), 2 X1, 3 X2, 4 AD0 (io), 5 AD1 (io), 6 AD2 (io), 7 AD3 (io), 8 AD4 (io), 9 AD5 (io), 10 AD6 (io), 11 AD7 (io), 12 GND (power), 13 ~{CS} (in), 14 AS (in), 15 R/~{W} (in), 16 GND (power), 17 DS (in), 18 ~{RESET} (in), 19 ~{IRQ} (hiz), 20 VBAT (power), 21 ~{RCLR} (in), 22 NC, 23 SQW (out), 24 VCC (power)

## DS12885N+
designator U?
Real-Time Clock, 114 Byte Battery-Backed RAM, 24-Pin PDIP, -40 to 85 degC, Pb-Free; DatasheetVersion: rev4, Apr-2010; PackageVersion: revD, 2011; PackageReference: P24+4; PackageDescription: 24-Pin Plastic Dual-In-Line, 0.6in Wide, PDIP(W), Pb-Free; Code_JEDEC: MS-011-AA; ComponentLink1Description: Manufacturer URL; ComponentLink1URL: http://www.maxim-ic.com; ComponentLink2Description: Datasheet; ComponentLink2URL: http://datasheets.maxim-ic.com/en/ds/DS12885-DS12C887A.pdf; ComponentLink3Description: Package Specification; ComponentLink3URL: http://pdfserv.maxim-ic.com/package_dwgs/21-0044.PDF
footprint P24+4 (DIP, 24-Leads, Row Spacing 15.24mm, Pitch 2.54mm, Body 31.8x14mm)
pins: 1 MOT (in), 2 X1, 3 X2, 4 AD0 (io), 5 AD1 (io), 6 AD2 (io), 7 AD3 (io), 8 AD4 (io), 9 AD5 (io), 10 AD6 (io), 11 AD7 (io), 12 GND (power), 13 ~{CS} (in), 14 AS (in), 15 R/~{W} (in), 16 GND (power), 17 DS (in), 18 ~{RESET} (in), 19 ~{IRQ} (hiz), 20 VBAT (power), 21 ~{RCLR} (in), 22 NC, 23 SQW (out), 24 VCC (power)

## DS12885Q
designator U?
Real-Time Clock, 114 Byte Battery-Backed RAM, 28-Pin PLCC, 0 to 70 degC; DatasheetVersion: rev4, Apr-2010; PackageVersion: revE, 2009; PackageReference: Q28-1; PackageDescription: 28-Pin Plastic Leaded Chip Carrier 1.27 mm Pitch, PLCC; Code_JEDEC: MO-047-AB; ComponentLink1Description: Manufacturer URL; ComponentLink1URL: http://www.maxim-ic.com; ComponentLink2Description: Datasheet; ComponentLink2URL: http://datasheets.maxim-ic.com/en/ds/DS12885-DS12C887A.pdf; ComponentLink3Description: Package Specification; ComponentLink3URL: http://pdfserv.maxim-ic.com/package_dwgs/21-0049.PDF
footprint Q28-1_N (Leaded Chip Carrier, 28-Leads, Body 11.5x11.5mm, Pitch 1.27mm, IPC Medium Density)
footprint Q28-1_L (Leaded Chip Carrier, 28-Leads, Body 11.5x11.5mm, Pitch 1.27mm, IPC High Density)
footprint Q28-1_M (Leaded Chip Carrier, 28-Leads, Body 11.5x11.5mm, Pitch 1.27mm, IPC Low Density)
part A pins: 2 MOT (in), 3 X1, 4 X2, 5 AD0 (io), 6 AD1 (io), 7 AD2 (io), 8 AD3 (io), 9 AD4 (io), 10 AD5 (io), 12 AD6 (io), 14 AD7 (io), 15 GND (power), 16 ~{CS} (in), 17 AS (in), 19 R/~{W} (in), 20 GND (power), 21 DS (in), 22 ~{RESET} (in), 23 ~{IRQ} (hiz), 24 VBAT (power), 25 ~{RCLR} (in), 27 SQW (out), 28 VCC (power)
part B pins: 1 NC, 11 NC, 13 NC, 18 NC, 26 NC

## DS12885Q+
designator U?
Real-Time Clock, 114 Byte Battery-Backed RAM, 28-Pin PLCC, 0 to 70 degC, Pb-Free; DatasheetVersion: rev4, Apr-2010; PackageVersion: revE, 2009; PackageReference: Q28+13; PackageDescription: 28-Pin Plastic Leaded Chip Carrier 1.27 mm Pitch, PLCC, Pb-Free; Code_JEDEC: MO-047-AB; ComponentLink1Description: Manufacturer URL; ComponentLink1URL: http://www.maxim-ic.com; ComponentLink2Description: Datasheet; ComponentLink2URL: http://datasheets.maxim-ic.com/en/ds/DS12885-DS12C887A.pdf; ComponentLink3Description: Package Specification; ComponentLink3URL: http://pdfserv.maxim-ic.com/package_dwgs/21-0049.PDF
footprint Q28+13_N (Leaded Chip Carrier, 28-Leads, Body 11.5x11.5mm, Pitch 1.27mm, IPC Medium Density)
footprint Q28+13_L (Leaded Chip Carrier, 28-Leads, Body 11.5x11.5mm, Pitch 1.27mm, IPC High Density)
footprint Q28+13_M (Leaded Chip Carrier, 28-Leads, Body 11.5x11.5mm, Pitch 1.27mm, IPC Low Density)
part A pins: 2 MOT (in), 3 X1, 4 X2, 5 AD0 (io), 6 AD1 (io), 7 AD2 (io), 8 AD3 (io), 9 AD4 (io), 10 AD5 (io), 12 AD6 (io), 14 AD7 (io), 15 GND (power), 16 ~{CS} (in), 17 AS (in), 19 R/~{W} (in), 20 GND (power), 21 DS (in), 22 ~{RESET} (in), 23 ~{IRQ} (hiz), 24 VBAT (power), 25 ~{RCLR} (in), 27 SQW (out), 28 VCC (power)
part B pins: 1 NC, 11 NC, 13 NC, 18 NC, 26 NC

## DS12885Q+T&R
designator U?
Real-Time Clock, 114 Byte Battery-Backed RAM, 28-Pin PLCC, 0 to 70 degC, Pb-Free, Reel; DatasheetVersion: rev4, Apr-2010; PackageVersion: revE, 2009; PackageReference: Q28+13; PackageDescription: 28-Pin Plastic Leaded Chip Carrier 1.27 mm Pitch, PLCC, Pb-Free; Code_JEDEC: MO-047-AB; ComponentLink1Description: Manufacturer URL; ComponentLink1URL: http://www.maxim-ic.com; ComponentLink2Description: Datasheet; ComponentLink2URL: http://datasheets.maxim-ic.com/en/ds/DS12885-DS12C887A.pdf; ComponentLink3Description: Package Specification; ComponentLink3URL: http://pdfserv.maxim-ic.com/package_dwgs/21-0049.PDF
footprint Q28+13_N (Leaded Chip Carrier, 28-Leads, Body 11.5x11.5mm, Pitch 1.27mm, IPC Medium Density)
footprint Q28+13_L (Leaded Chip Carrier, 28-Leads, Body 11.5x11.5mm, Pitch 1.27mm, IPC High Density)
footprint Q28+13_M (Leaded Chip Carrier, 28-Leads, Body 11.5x11.5mm, Pitch 1.27mm, IPC Low Density)
part A pins: 2 MOT (in), 3 X1, 4 X2, 5 AD0 (io), 6 AD1 (io), 7 AD2 (io), 8 AD3 (io), 9 AD4 (io), 10 AD5 (io), 12 AD6 (io), 14 AD7 (io), 15 GND (power), 16 ~{CS} (in), 17 AS (in), 19 R/~{W} (in), 20 GND (power), 21 DS (in), 22 ~{RESET} (in), 23 ~{IRQ} (hiz), 24 VBAT (power), 25 ~{RCLR} (in), 27 SQW (out), 28 VCC (power)
part B pins: 1 NC, 11 NC, 13 NC, 18 NC, 26 NC

## DS12885QN+
designator U?
Real-Time Clock, 114 Byte Battery-Backed RAM, 28-Pin PLCC, -40 to 85 degC, Pb-Free; DatasheetVersion: rev4, Apr-2010; PackageVersion: revE, 2009; PackageReference: Q28+13; PackageDescription: 28-Pin Plastic Leaded Chip Carrier 1.27 mm Pitch, PLCC, Pb-Free; Code_JEDEC: MO-047-AB; ComponentLink1Description: Manufacturer URL; ComponentLink1URL: http://www.maxim-ic.com; ComponentLink2Description: Datasheet; ComponentLink2URL: http://datasheets.maxim-ic.com/en/ds/DS12885-DS12C887A.pdf; ComponentLink3Description: Package Specification; ComponentLink3URL: http://pdfserv.maxim-ic.com/package_dwgs/21-0049.PDF
footprint Q28+13_N (Leaded Chip Carrier, 28-Leads, Body 11.5x11.5mm, Pitch 1.27mm, IPC Medium Density)
footprint Q28+13_L (Leaded Chip Carrier, 28-Leads, Body 11.5x11.5mm, Pitch 1.27mm, IPC High Density)
footprint Q28+13_M (Leaded Chip Carrier, 28-Leads, Body 11.5x11.5mm, Pitch 1.27mm, IPC Low Density)
part A pins: 2 MOT (in), 3 X1, 4 X2, 5 AD0 (io), 6 AD1 (io), 7 AD2 (io), 8 AD3 (io), 9 AD4 (io), 10 AD5 (io), 12 AD6 (io), 14 AD7 (io), 15 GND (power), 16 ~{CS} (in), 17 AS (in), 19 R/~{W} (in), 20 GND (power), 21 DS (in), 22 ~{RESET} (in), 23 ~{IRQ} (hiz), 24 VBAT (power), 25 ~{RCLR} (in), 27 SQW (out), 28 VCC (power)
part B pins: 1 NC, 11 NC, 13 NC, 18 NC, 26 NC

## DS12885QN+T&R
designator U?
Real-Time Clock, 114 Byte Battery-Backed RAM, 28-Pin PLCC, -40 to 85 degC, Pb-Free, Reel; DatasheetVersion: rev4, Apr-2010; PackageVersion: revE, 2009; PackageReference: Q28+13; PackageDescription: 28-Pin Plastic Leaded Chip Carrier 1.27 mm Pitch, PLCC, Pb-Free; Code_JEDEC: MO-047-AB; ComponentLink1Description: Manufacturer URL; ComponentLink1URL: http://www.maxim-ic.com; ComponentLink2Description: Datasheet; ComponentLink2URL: http://datasheets.maxim-ic.com/en/ds/DS12885-DS12C887A.pdf; ComponentLink3Description: Package Specification; ComponentLink3URL: http://pdfserv.maxim-ic.com/package_dwgs/21-0049.PDF
footprint Q28+13_N (Leaded Chip Carrier, 28-Leads, Body 11.5x11.5mm, Pitch 1.27mm, IPC Medium Density)
footprint Q28+13_L (Leaded Chip Carrier, 28-Leads, Body 11.5x11.5mm, Pitch 1.27mm, IPC High Density)
footprint Q28+13_M (Leaded Chip Carrier, 28-Leads, Body 11.5x11.5mm, Pitch 1.27mm, IPC Low Density)
part A pins: 2 MOT (in), 3 X1, 4 X2, 5 AD0 (io), 6 AD1 (io), 7 AD2 (io), 8 AD3 (io), 9 AD4 (io), 10 AD5 (io), 12 AD6 (io), 14 AD7 (io), 15 GND (power), 16 ~{CS} (in), 17 AS (in), 19 R/~{W} (in), 20 GND (power), 21 DS (in), 22 ~{RESET} (in), 23 ~{IRQ} (hiz), 24 VBAT (power), 25 ~{RCLR} (in), 27 SQW (out), 28 VCC (power)
part B pins: 1 NC, 11 NC, 13 NC, 18 NC, 26 NC

## DS12885S
designator U?
Real-Time Clock, 114 Byte Battery-Backed RAM, 24-Pin SO, 0 to 70 degC; DatasheetVersion: rev4, Apr-2010; PackageVersion: revD, 2010; PackageReference: W24-1; PackageDescription: 24-Pin Small-Outline IC, Wide (0.3in), 1.27 mm Pitch, SOIC (W); Code_JEDEC: MS-013-AD; ComponentLink1Description: Manufacturer URL; ComponentLink1URL: http://www.maxim-ic.com; ComponentLink2Description: Datasheet; ComponentLink2URL: http://datasheets.maxim-ic.com/en/ds/DS12885-DS12C887A.pdf; ComponentLink3Description: Package Specification; ComponentLink3URL: http://pdfserv.maxim-ic.com/package_dwgs/21-0042.PDF
footprint W24-1_N (SOIC, 24-Leads, Body 15.4x7.5mm, Pitch 1.27mm, IPC Medium Density)
footprint W24-1_L (SOIC, 24-Leads, Body 15.4x7.5mm, Pitch 1.27mm, IPC High Density)
footprint W24-1_M (SOIC, 24-Leads, Body 15.4x7.5mm, Pitch 1.27mm, IPC Low Density)
pins: 1 MOT (in), 2 X1, 3 X2, 4 AD0 (io), 5 AD1 (io), 6 AD2 (io), 7 AD3 (io), 8 AD4 (io), 9 AD5 (io), 10 AD6 (io), 11 AD7 (io), 12 GND (power), 13 ~{CS} (in), 14 AS (in), 15 R/~{W} (in), 16 GND (power), 17 DS (in), 18 ~{RESET} (in), 19 ~{IRQ} (hiz), 20 VBAT (power), 21 ~{RCLR} (in), 22 NC, 23 SQW (out), 24 VCC (power)

## DS12885S+
designator U?
Real-Time Clock, 114 Byte Battery-Backed RAM, 24-Pin SO, 0 to 70 degC, Pb-Free; DatasheetVersion: rev4, Apr-2010; PackageVersion: revD, 2010; PackageReference: W24+1; PackageDescription: 24-Pin Small-Outline IC, Wide (0.3in), 1.27 mm Pitch, SOIC (W), Pb-Free; Code_JEDEC: MS-013-AD; ComponentLink1Description: Manufacturer URL; ComponentLink1URL: http://www.maxim-ic.com; ComponentLink2Description: Datasheet; ComponentLink2URL: http://datasheets.maxim-ic.com/en/ds/DS12885-DS12C887A.pdf; ComponentLink3Description: Package Specification; ComponentLink3URL: http://pdfserv.maxim-ic.com/package_dwgs/21-0042.PDF
footprint W24+1_N (SOIC, 24-Leads, Body 15.4x7.5mm, Pitch 1.27mm, IPC Medium Density)
footprint W24+1_L (SOIC, 24-Leads, Body 15.4x7.5mm, Pitch 1.27mm, IPC High Density)
footprint W24+1_M (SOIC, 24-Leads, Body 15.4x7.5mm, Pitch 1.27mm, IPC Low Density)
pins: 1 MOT (in), 2 X1, 3 X2, 4 AD0 (io), 5 AD1 (io), 6 AD2 (io), 7 AD3 (io), 8 AD4 (io), 9 AD5 (io), 10 AD6 (io), 11 AD7 (io), 12 GND (power), 13 ~{CS} (in), 14 AS (in), 15 R/~{W} (in), 16 GND (power), 17 DS (in), 18 ~{RESET} (in), 19 ~{IRQ} (hiz), 20 VBAT (power), 21 ~{RCLR} (in), 22 NC, 23 SQW (out), 24 VCC (power)

## DS12885S+T&R
designator U?
Real-Time Clock, 114 Byte Battery-Backed RAM, 24-Pin SO, 0 to 70 degC, Pb-Free, Reel; DatasheetVersion: rev4, Apr-2010; PackageVersion: revD, 2010; PackageReference: W24+1; PackageDescription: 24-Pin Small-Outline IC, Wide (0.3in), 1.27 mm Pitch, SOIC (W), Pb-Free; Code_JEDEC: MS-013-AD; ComponentLink1Description: Manufacturer URL; ComponentLink1URL: http://www.maxim-ic.com; ComponentLink2Description: Datasheet; ComponentLink2URL: http://datasheets.maxim-ic.com/en/ds/DS12885-DS12C887A.pdf; ComponentLink3Description: Package Specification; ComponentLink3URL: http://pdfserv.maxim-ic.com/package_dwgs/21-0042.PDF
footprint W24+1_N (SOIC, 24-Leads, Body 15.4x7.5mm, Pitch 1.27mm, IPC Medium Density)
footprint W24+1_L (SOIC, 24-Leads, Body 15.4x7.5mm, Pitch 1.27mm, IPC High Density)
footprint W24+1_M (SOIC, 24-Leads, Body 15.4x7.5mm, Pitch 1.27mm, IPC Low Density)
pins: 1 MOT (in), 2 X1, 3 X2, 4 AD0 (io), 5 AD1 (io), 6 AD2 (io), 7 AD3 (io), 8 AD4 (io), 9 AD5 (io), 10 AD6 (io), 11 AD7 (io), 12 GND (power), 13 ~{CS} (in), 14 AS (in), 15 R/~{W} (in), 16 GND (power), 17 DS (in), 18 ~{RESET} (in), 19 ~{IRQ} (hiz), 20 VBAT (power), 21 ~{RCLR} (in), 22 NC, 23 SQW (out), 24 VCC (power)

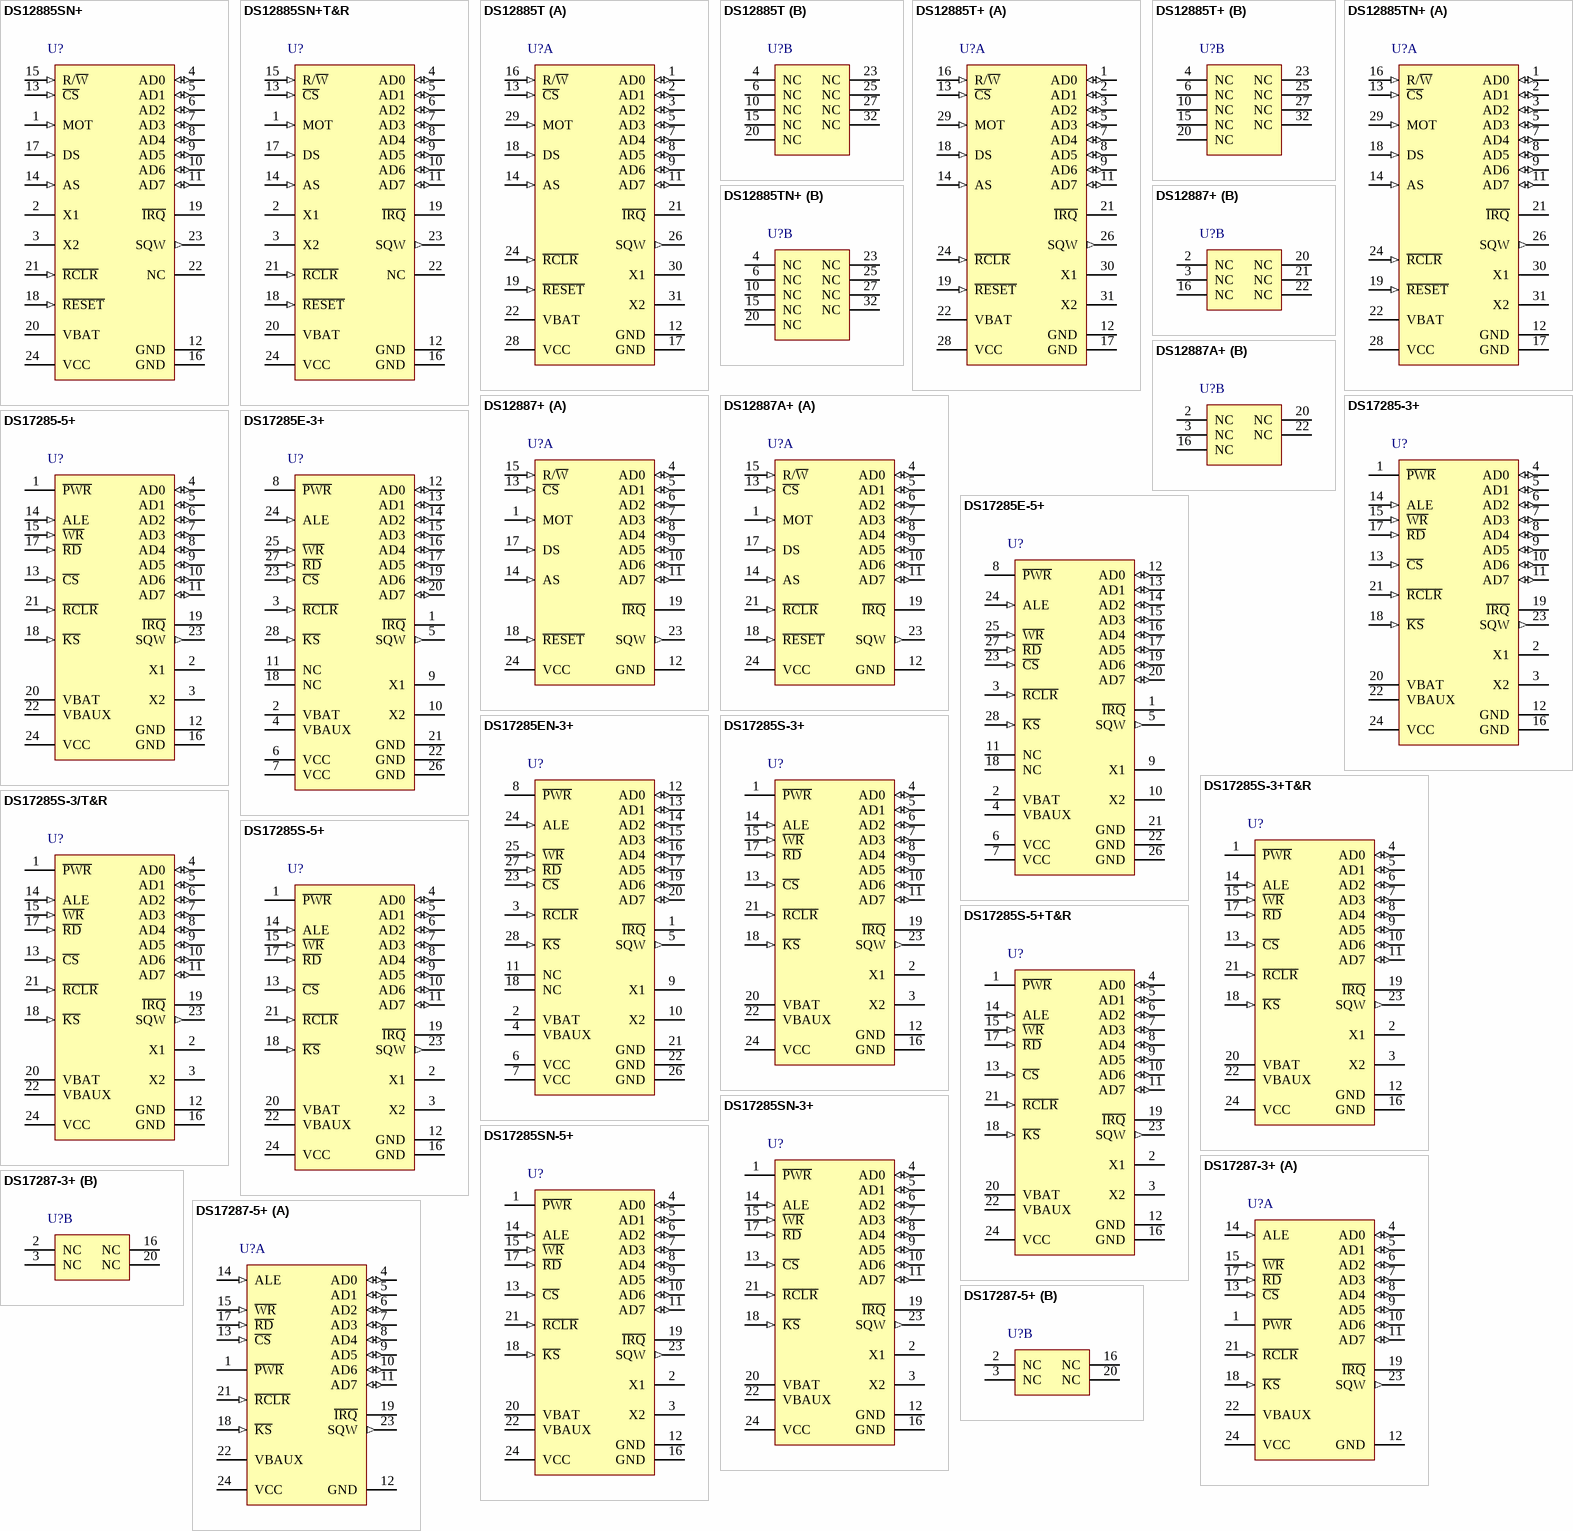
[diagram p19: symbols DS12885SN+ to DS17287-5+]

## DS12885SN+
designator U?
Real-Time Clock, 114 Byte Battery-Backed RAM, 24-Pin SO, -40 to 85 degC, Pb-Free; DatasheetVersion: rev4, Apr-2010; PackageVersion: revD, 2010; PackageReference: W24+1; PackageDescription: 24-Pin Small-Outline IC, Wide (0.3in), 1.27 mm Pitch, SOIC (W), Pb-Free; Code_JEDEC: MS-013-AD; ComponentLink1Description: Manufacturer URL; ComponentLink1URL: http://www.maxim-ic.com; ComponentLink2Description: Datasheet; ComponentLink2URL: http://datasheets.maxim-ic.com/en/ds/DS12885-DS12C887A.pdf; ComponentLink3Description: Package Specification; ComponentLink3URL: http://pdfserv.maxim-ic.com/package_dwgs/21-0042.PDF
footprint W24+1_N (SOIC, 24-Leads, Body 15.4x7.5mm, Pitch 1.27mm, IPC Medium Density)
footprint W24+1_L (SOIC, 24-Leads, Body 15.4x7.5mm, Pitch 1.27mm, IPC High Density)
footprint W24+1_M (SOIC, 24-Leads, Body 15.4x7.5mm, Pitch 1.27mm, IPC Low Density)
pins: 1 MOT (in), 2 X1, 3 X2, 4 AD0 (io), 5 AD1 (io), 6 AD2 (io), 7 AD3 (io), 8 AD4 (io), 9 AD5 (io), 10 AD6 (io), 11 AD7 (io), 12 GND (power), 13 ~{CS} (in), 14 AS (in), 15 R/~{W} (in), 16 GND (power), 17 DS (in), 18 ~{RESET} (in), 19 ~{IRQ} (hiz), 20 VBAT (power), 21 ~{RCLR} (in), 22 NC, 23 SQW (out), 24 VCC (power)

## DS12885SN+T&R
designator U?
Real-Time Clock, 114 Byte Battery-Backed RAM, 24-Pin SO, -40 to 85 degC, Pb-Free, Reel; DatasheetVersion: rev4, Apr-2010; PackageVersion: revD, 2010; PackageReference: W24+1; PackageDescription: 24-Pin Small-Outline IC, Wide (0.3in), 1.27 mm Pitch, SOIC (W), Pb-Free; Code_JEDEC: MS-013-AD; ComponentLink1Description: Manufacturer URL; ComponentLink1URL: http://www.maxim-ic.com; ComponentLink2Description: Datasheet; ComponentLink2URL: http://datasheets.maxim-ic.com/en/ds/DS12885-DS12C887A.pdf; ComponentLink3Description: Package Specification; ComponentLink3URL: http://pdfserv.maxim-ic.com/package_dwgs/21-0042.PDF
footprint W24+1_N (SOIC, 24-Leads, Body 15.4x7.5mm, Pitch 1.27mm, IPC Medium Density)
footprint W24+1_L (SOIC, 24-Leads, Body 15.4x7.5mm, Pitch 1.27mm, IPC High Density)
footprint W24+1_M (SOIC, 24-Leads, Body 15.4x7.5mm, Pitch 1.27mm, IPC Low Density)
pins: 1 MOT (in), 2 X1, 3 X2, 4 AD0 (io), 5 AD1 (io), 6 AD2 (io), 7 AD3 (io), 8 AD4 (io), 9 AD5 (io), 10 AD6 (io), 11 AD7 (io), 12 GND (power), 13 ~{CS} (in), 14 AS (in), 15 R/~{W} (in), 16 GND (power), 17 DS (in), 18 ~{RESET} (in), 19 ~{IRQ} (hiz), 20 VBAT (power), 21 ~{RCLR} (in), 22 NC, 23 SQW (out), 24 VCC (power)